# EAGLE library part LTC4447 (library epic)
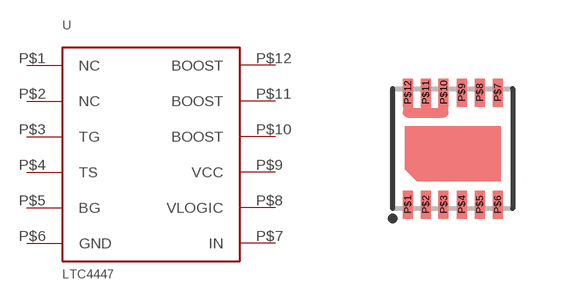
[diagram p26: symbol with the pads of LTC4447; footprint LTC4447]

Designator prefix U

## LTC4447  [LTC4447]
P$1  NC
P$2  NC
P$3  TG
P$4  TS
P$5  BG
P$6  GND
P$7  IN
P$8  VLOGIC
P$9  VCC
P$10  BOOST
P$11  BOOST
P$12  BOOST

## Footprint LTC4447 (pad centres in mm)
smd 0.25 x 0.7: P$1 -1.125,-1.4; P$2 -0.675,-1.4; P$3 -0.225,-1.4; P$4 0.225,-1.4; P$5 0.675,-1.4; P$6 1.125,-1.4; P$7 1.125,1.4; P$8 0.675,1.4; P$9 0.225,1.4; P$10 -0.225,1.4; P$11 -0.675,1.4; P$12 -1.125,1.4